# EAGLE library part 750315146 (library wurth_electronics_midcom_inc_v2-1)
Package Style: EPC17 Mounting: THT Pins: 10 pins Bobbin: 070-5620 Best pinouts for production vary per application. Please contact Wurth Electronics Midcom, Inc. for assistance with your custom design. Website: Wurth Electronics Midcom <http://www.we-online.com/midcom> Contact us Wurth Electronics Midcom, Inc. 121 Airport Dr. Watertown, SD 57201 Phone: (605) 886-4385 Fax: (605) 886-4486 E-Mail: midcom@we-online.com
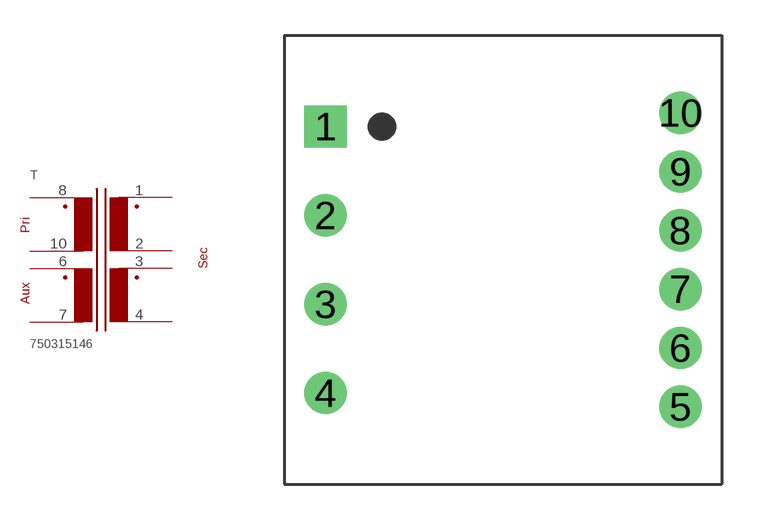
[diagram p36: symbol with the pads of EPC17_THT_H_10PIN_(5620); footprint EPC17_THT_H_10PIN_(5620)]

Designator prefix T

## 750315146  [EPC17_THT_H_10PIN_(5620)]
1  1  pas
2  2  pas
3  3  pas
4  4  pas
6  6  pas
7  7  pas
8  8  pas
10  10  pas

## Footprint EPC17_THT_H_10PIN_(5620) (pad centres in mm)
Package Style: EPC17 Mounting: THT Pins: 10 Bobbin: 070-5620
drill 1.194 square: 1 -7.506,5.639
drill 1.194: 2 -7.506,1.88; 3 -7.506,-1.88; 4 -7.506,-5.639; 5 7.506,-6.223; 6 7.506,-3.734; 7 7.506,-1.245; 8 7.506,1.245; 9 7.506,3.734; 10 7.506,6.223